# Altium schematic symbol library circuithub-e8ebc3d77a70ff8ac73945645939516ed1984533.SchLib: 2 symbols
Pins are listed as number, name and electrical type; pins without a type are passive.

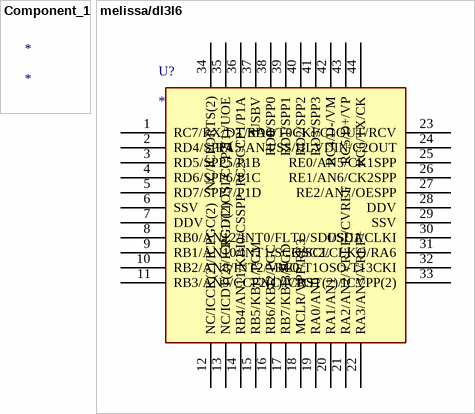
[diagram p0: symbols Component_1 to melissa/dl3l6]

## Component_1
designator *

## melissa/dl3l6
designator U?
Imported
pins: 1 RC7/RX/DT/SDO, 2 RD4/SPP4, 3 RD5/SPP5/P1B, 4 RD6/SPP6/P1C, 5 RD7/SPP7/P1D, 6 SSV, 7 DDV, 8 RB0/AN12/INT0/FLT0/SDI/SDA, 9 RB1/AN10/INT1/SCK/SCL, 10 RB2/AN8/INT2/VMO, 11 RB3/AN9/CCP2(1)/VPO, 12 NC/ICCK(2)/ICPGC(2), 13 NC/ICDT(2)/ICPGD(2), 14 RB4/AN11/KBI0/CSSPP, 15 RB5/KBI1/PGM, 16 RB6/KBI2/PGC, 17 RB7/KBI3/PGD, 18 MCLR/VPP/RE3, 19 RA0/AN0, 20 RA1/AN1, 21 RA2/AN2/VREF-/CVREF, 22 RA3/AN3/VREF+, 23 RA4/T0CKI/C1OUT/RCV, 24 RA5/AN4/SS/HLVDIN/C2OUT, 25 RE0/AN5/CK1SPP, 26 RE1/AN6/CK2SPP, 27 RE2/AN7/OESPP, 28 DDV, 29 SSV, 30 OSC1/CLKI, 31 OSC2/CLKO/RA6, 32 RC0/T1OSO/T13CKI, 33 NC/ICRST(2)/ICVPP(2), 34 NC/ICPORTS(2), 35 RC1/T1OSI/CCP2(1)/UOE, 36 RC2/CCP1/P1A, 37 USBV, 38 RD0/SPP0, 39 RD1/SPP1, 40 RD2/SPP2, 41 RD3/SPP3, 42 RC4/D-/VM, 43 RC5/D+/VP, 44 RC6/TX/CK